# Altium footprint library SSD1306-14PIN.PcbLib: 1 footprints
Each footprint in its own frame and in the unit in brackets; x right, y up, seen from the top. Pads: shape width x height; smd on the part's side, far side on the other; paste and mask are expansions set on the pad; w line width, h text height; cw(c..) or ccw(c..) is an arc to the next point about the centre after c.
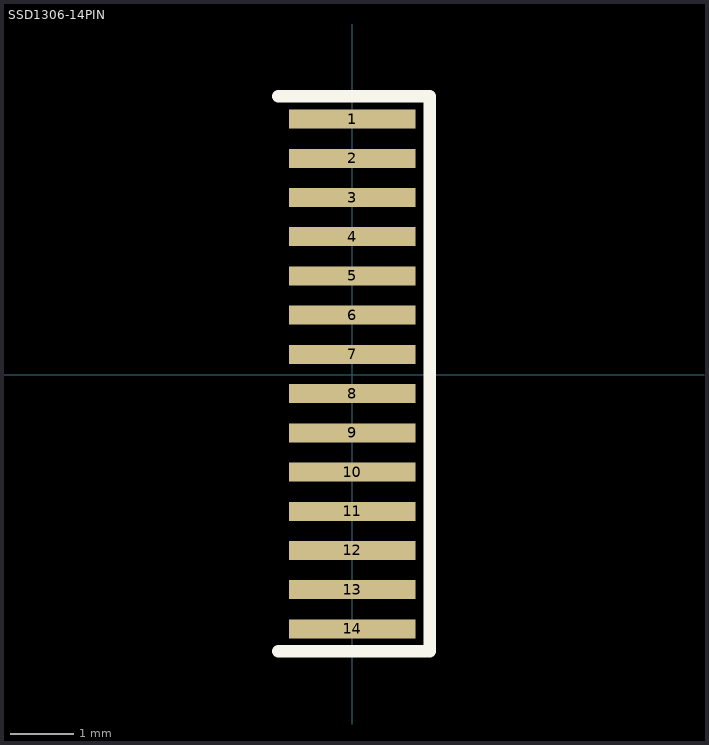
[diagram p0: the footprint, top view; thin cyan lines are the x and y axes]

## SSD1306-14PIN [mm]
pads (14):
  rect 2x0.3 smd: 1(0,4.04) 2(0,3.42) 3(0,2.8) 4(0,2.18) 5(0,1.56) 6(0,0.94) 7(0,0.32) 8(0,-0.3) 9(0,-0.92) 10(0,-1.54) 11(0,-2.16) 12(0,-2.78) 13(0,-3.4) 14(0,-4.02)
Top Overlay:
  lines w0.2: -1.175,-4.375 1.225,-4.375 1.225,4.4 -1.175,4.4
Top Assembly:
  lines w0.1: -1.175,-4.375 1.225,-4.375 1.225,4.4 -1.175,4.4
  text "'.Designator'" at -0.925,-0.25 h0.7